# Altium schematic symbol library TS-111-T-A-1.SchLib: 1 symbol
Pins are listed as number, name and electrical type; pins without a type are passive.

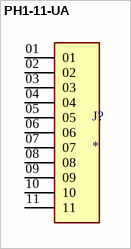
[diagram p0: symbol PH1-11-UA]

## PH1-11-UA
designator J?
11POS Male Header; MP: TS-111-T-A-1; MF: Samtec; Check_prices: https://www.snapeda.com/parts/TS-111-T-A-1/Samtec/view-part/?ref=eda; Value: *; Availability: In Stock; Price: None; Package: None; SnapEDA_Link: https://www.snapeda.com/parts/TS-111-T-A-1/Samtec/view-part/?ref=snap; Purchase-URL: https://pricing.snapeda.com/search/part/TS-111-T-A-1/?ref=eda
footprint 11POS 2.54mm Male Header
pins: 01, 02, 03, 04, 05, 06, 07, 08, 09, 10, 11